# Altium schematic symbol library DRF1605.SchLib: 1 symbol
Pins are listed as number, name and electrical type; pins without a type are passive.

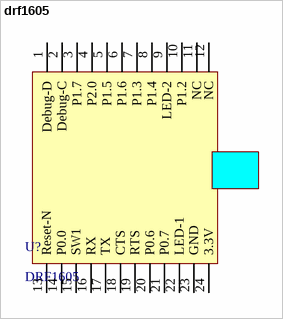
[diagram p0: symbol drf1605]

## drf1605
designator U?, comment DRF1605
footprint DRF1605
pins: 1 Debug-D, 2 Debug-C, 3 P1.7, 4 P2.0, 5 P1.5, 6 P1.6, 7 P1.3, 8 P1.4, 9 LED-2, 10 P1.2, 11 NC, 12 NC, 13 Reset-N, 14 P0.0, 15 SW1, 16 RX, 17 TX, 18 CTS, 19 RTS, 20 P0.6, 21 P0.7, 22 LED-1, 23 GND, 24 3.3V